# EAGLE library part NINA-B302-00B-00 (library NINA-B302-00B-00)
BLUETOOTH LOW ENERGY STAND-ALONE Source: Datasheet <https://www.u-blox.com/sites/default/files/NINA-B3_DataSheet_(UBX-17052099).pdf>
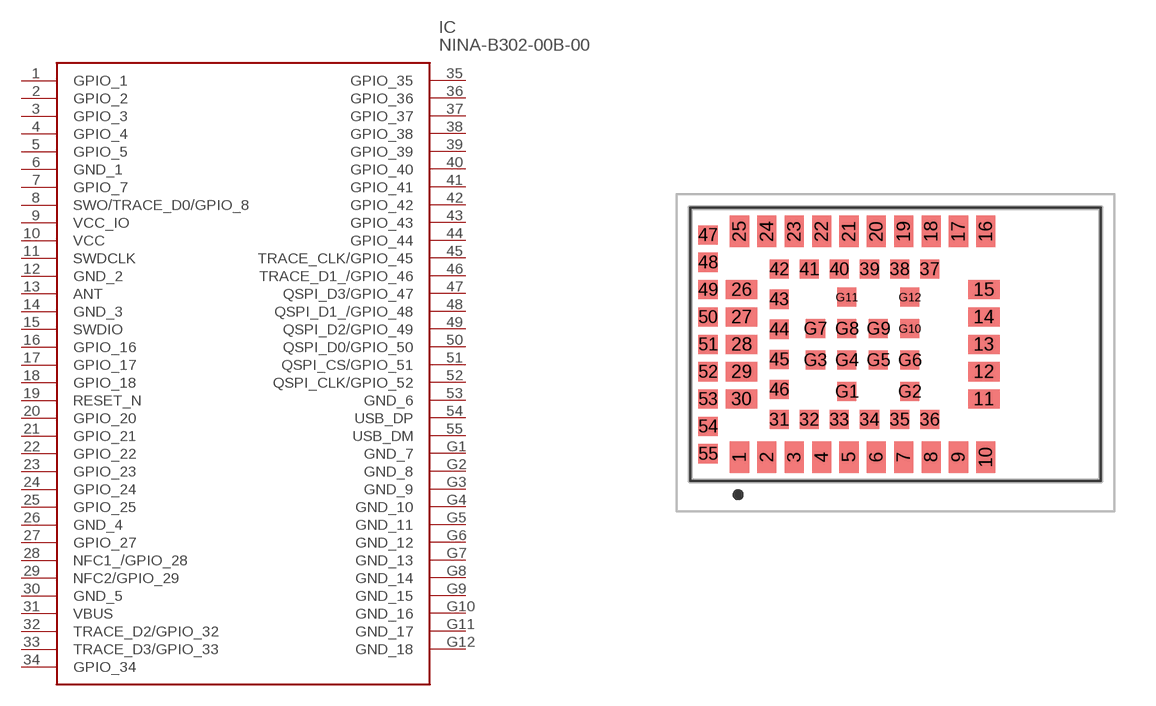
[diagram p0: symbol with the pads of NINAB30200B00; footprint NINAB30200B00]

Designator prefix IC

## NINA-B302-00B-00 (Arrow_Part_Number: NINA-B302-00B-00; Description: BLUETOOTH LOW ENERGY STAND-ALONE; Height: 3.83mm; Manufacturer_Name: U-Blox; Manufacturer_Part_Number: NINA-B302-00B-00)  [NINAB30200B00]
1  GPIO_1
2  GPIO_2
3  GPIO_3
4  GPIO_4
5  GPIO_5
6  GND_1
7  GPIO_7
8  SWO/TRACE_D0/GPIO_8
9  VCC_IO
10  VCC
11  SWDCLK
12  GND_2
13  ANT
14  GND_3
15  SWDIO
16  GPIO_16
17  GPIO_17
18  GPIO_18
19  RESET_N
20  GPIO_20
21  GPIO_21
22  GPIO_22
23  GPIO_23
24  GPIO_24
25  GPIO_25
26  GND_4
27  GPIO_27
28  NFC1_/GPIO_28
29  NFC2/GPIO_29
30  GND_5
31  VBUS
32  TRACE_D2/GPIO_32
33  TRACE_D3/GPIO_33
34  GPIO_34
35  GPIO_35
36  GPIO_36
37  GPIO_37
38  GPIO_38
39  GPIO_39
40  GPIO_40
41  GPIO_41
42  GPIO_42
43  GPIO_43
44  GPIO_44
45  TRACE_CLK/GPIO_45
46  TRACE_D1_/GPIO_46
47  QSPI_D3/GPIO_47
48  QSPI_D1_/GPIO_48
49  QSPI_D2/GPIO_49
50  QSPI_D0/GPIO_50
51  QSPI_CS/GPIO_51
52  QSPI_CLK/GPIO_52
53  GND_6
54  USB_DP
55  USB_DM
G1  GND_7
G2  GND_8
G3  GND_9
G4  GND_10
G5  GND_11
G6  GND_12
G7  GND_13
G8  GND_14
G9  GND_15
G10  GND_16
G11  GND_17
G12  GND_18

## Footprint NINAB30200B00 (pad centres in mm)
NINA-B302-00B-00-5
smd 0.7 x 1.15: 1 -5.7,-4.125; 2 -4.7,-4.125; 3 -3.7,-4.125; 4 -2.7,-4.125; 5 -1.7,-4.125; 6 -0.7,-4.125; 7 0.3,-4.125; 8 1.3,-4.125; 9 2.3,-4.125; 10 3.3,-4.125; 16 3.3,4.125; 17 2.3,4.125; 18 1.3,4.125; 19 0.3,4.125; 20 -0.7,4.125; 21 -1.7,4.125; 22 -2.7,4.125; 23 -3.7,4.125; 24 -4.7,4.125; 25 -5.7,4.125
smd 1.15 x 0.7: 11 3.225,-2; 12 3.225,-1; 13 3.225,0; 14 3.225,1; 15 3.225,2; 26 -5.625,2; 27 -5.625,1; 28 -5.625,0; 29 -5.625,-1; 30 -5.625,-2
smd 0.7 x 0.7: 31 -4.25,-2.75; 32 -3.15,-2.75; 33 -2.05,-2.75; 34 -0.95,-2.75; 35 0.15,-2.75; 36 1.25,-2.75; 37 1.25,2.75; 38 0.15,2.75; 39 -0.95,2.75; 40 -2.05,2.75; 41 -3.15,2.75; 42 -4.25,2.75; 43 -4.25,1.65; 44 -4.25,0.55; 45 -4.25,-0.55; 46 -4.25,-1.65; 47 -6.85,4; 48 -6.85,3; 49 -6.85,2; 50 -6.85,1; 51 -6.85,0; 52 -6.85,-1; 53 -6.85,-2; 54 -6.85,-3; 55 -6.85,-4; G1 -1.775,-1.725; G2 0.525,-1.725; G3 -2.925,-0.575; G4 -1.775,-0.575; G5 -0.625,-0.575; G6 0.525,-0.575; G7 -2.925,0.575; G8 -1.775,0.575; G9 -0.625,0.575; G10 0.525,0.575; G11 -1.775,1.725; G12 0.525,1.725